# EAGLE library part 6490XX221732_649006221732 (library WR-MPC4)
WR-MPC4 4.20 mm Male Dual Row Vertical Header w. Mounting Pegs KIND PROPERTIES: Pitch:4.2 mm Gender:Male MATERIAL PROPERTIES: Insulator Material :PA66 Insulator Flammability Rating:UL94 V-0 Insulator Color:White Contact Material:Copper Alloy Contact Plating:Tin Contact Type:Stamped GENERAL INFORMATION Operating Temperature:-40 up to +105 °C Working Voltage:600V (AC) Withstanding Voltage:1500 V (AC) Contact Resistance:10 mΩ RISO:1000 MΩ PACKAGING PROPERTIES Packaging:Tray <https://katalog.we-online.com/media/images/v2/o33190v209%20Family_WR-MPC4_6490xx221732.jpg> Details see: https://katalog.we-online.com/en/em/MPC4_4_20_MALE_DUAL_ROW_VERTICAL_HEADER_W_MOUNTING_PEGS_6490XX221732 Updated by Yingchun,Shan 2019-11-12 2019 (C) Würth Elektronik
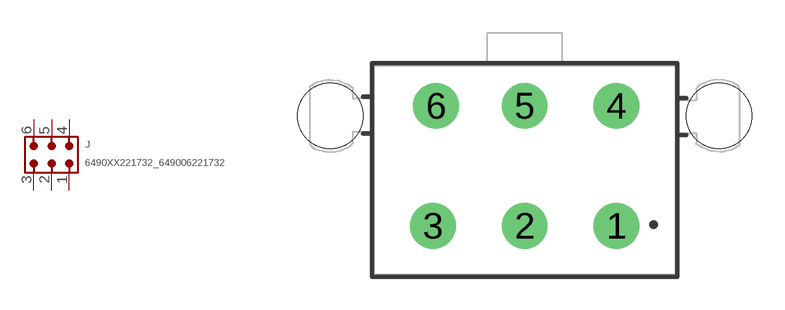
[diagram p9: symbol with the pads of 649006221732; footprint 649006221732]

Designator prefix J

## 6490XX221732_649006221732 (CONTACT-RESISTANCE: 10mOhm; DATASHEET-URL: https://www.we-online.com/catalog/datasheet/649006221732.pdf; GENDER: Male; L: 17.8mm; MATE-WITH: WR-MPC4 4.20 mm Female Dual Row Plug; MOUNT: THT; PACKAGING: Tray; PART-NUMBER: 649006221732; PCB-CABLE-PANEL: PCB; PINS: 6; PITCH: 4.2mm; ROWS: Dual; TOL-R: max.; TYPE: Vertical; WORKING-VOLTAGE: 600V(AC))  [649006221732]
1  1  pas
2  2  pas
3  3  pas
4  4  pas
5  5  pas
6  6  pas

## Footprint 649006221732 (pad centres in mm)
WR-MPC4 4.20 mm Male Dual Row Vertical Header w. Mounting Pegs, 6 Pins
drill 1.4: 1 4.2,-2.55; 2 0,-2.55; 3 -4.2,-2.55; 4 4.2,2.95; 5 0,2.95; 6 -4.055,2.95
hole 3 at -8.9,2.49
hole 3 at 8.9,2.49